# EAGLE library part 87264-24_S (library con-molex-milli-grid)
RECEPTACAL
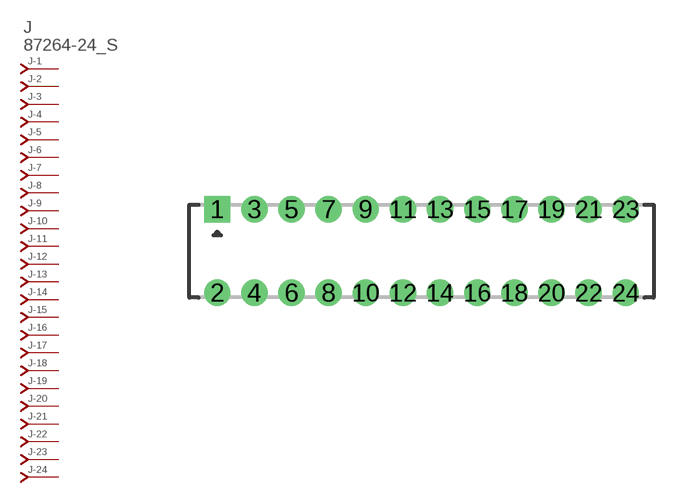
[diagram p291: symbol with the pads of 87264-24; footprint 87264-24]

Designator prefix J; gates -1=J-NV -2=J-N -3=J-N -4=J-N -5=J-N -6=J-N -7=J-N -8=J-N -9=J-N -10=J-N -11=J-N -12=J-N -13=J-N -14=J-N -15=J-N -16=J-N -17=J-N -18=J-N -19=J-N -20=J-N -21=J-N -22=J-N -23=J-N -24=J-N

## 87264-24_S  [87264-24]
1  -1:J  pas
2  -2:J  pas
3  -3:J  pas
4  -4:J  pas
5  -5:J  pas
6  -6:J  pas
7  -7:J  pas
8  -8:J  pas
9  -9:J  pas
10  -10:J  pas
11  -11:J  pas
12  -12:J  pas
13  -13:J  pas
14  -14:J  pas
15  -15:J  pas
16  -16:J  pas
17  -17:J  pas
18  -18:J  pas
19  -19:J  pas
20  -20:J  pas
21  -21:J  pas
22  -22:J  pas
23  -23:J  pas
24  -24:J  pas

## Footprint 87264-24 (pad centres in mm)
RECEPTACAL Dual Row, Side Entry
drill 0.914 square: 1 -11,2.25
drill 0.914: 2 -11,-2.25; 3 -9,2.25; 4 -9,-2.25; 5 -7,2.25; 6 -7,-2.25; 7 -5,2.25; 8 -5,-2.25; 9 -3,2.25; 10 -3,-2.25; 11 -1,2.25; 12 -1,-2.25; 13 1,2.25; 14 1,-2.25; 15 3,2.25; 16 3,-2.25; 17 5,2.25; 18 5,-2.25; 19 7,2.25; 20 7,-2.25; 21 9,2.25; 22 9,-2.25; 23 11,2.25; 24 11,-2.25